# Altium footprint library PcbLib1.PcbLib: 8 footprints
Each footprint in its own frame and in the unit in brackets; x right, y up, seen from the top. Pads: shape width x height; smd on the part's side, far side on the other; paste and mask are expansions set on the pad; w line width, h text height; cw(c..) or ccw(c..) is an arc to the next point about the centre after c.
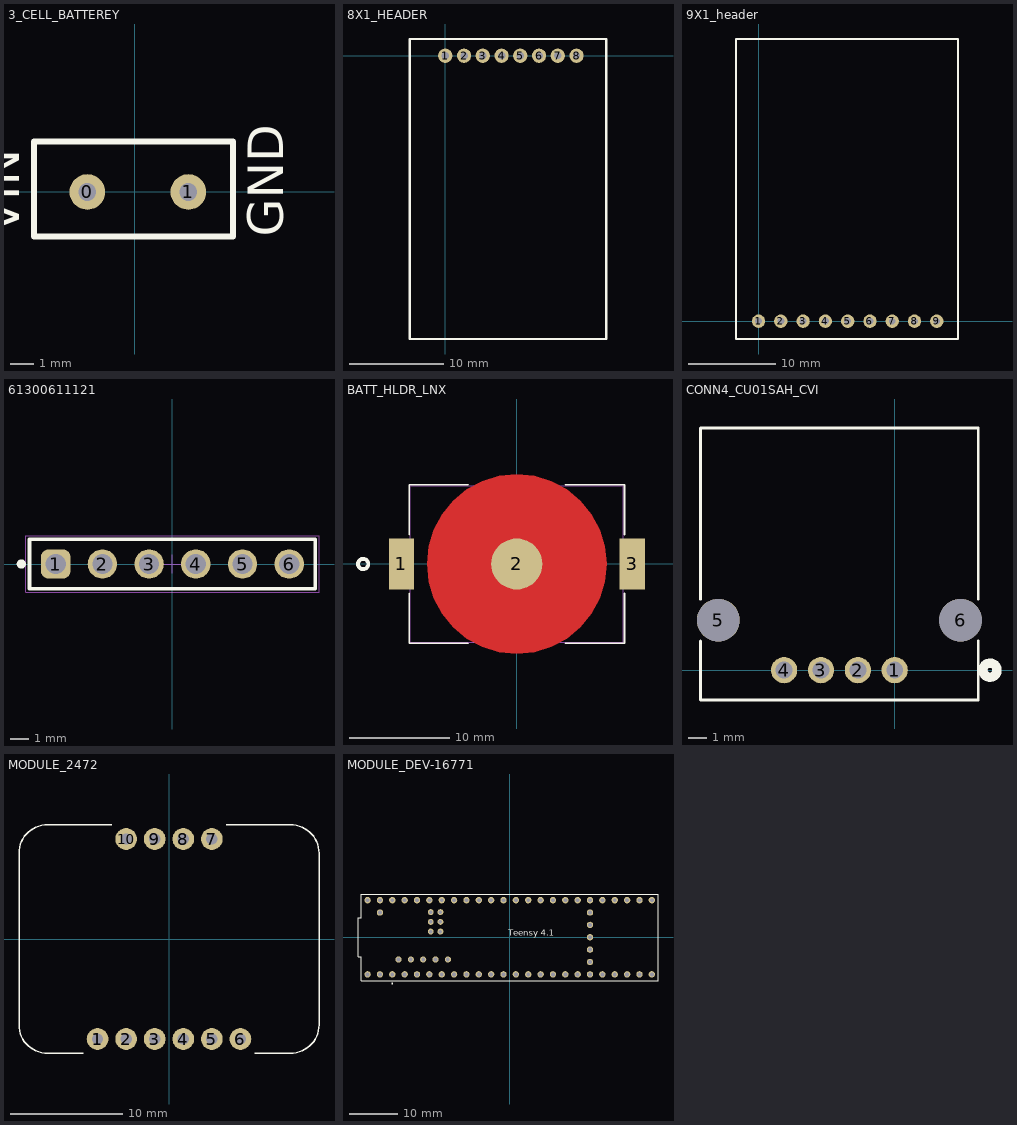
[diagram p0: the footprints below, top view; thin cyan lines are the x and y axes]

## 3_CELL_BATTEREY [mil]
pads (2):
  round 60 hole 30: 0(-80,0) 1(90,0)
Top Overlay:
  lines w10: -170,-75 165,-75 165,85 -170,85 -170,-75
  text "GND" at 250,-75 h60
  text "VIN" at -195,-70 h60

## 8X1_HEADER [mil]
pads (8):
  round 60 hole 31.5: 1(0,0) 2(78.74,0) 3(157.48,0) 4(236.22,0) 5(314.96,0) 6(393.7,0)
  round 60 hole 30: 7(472.44,0) 8(551.18,0)
Top Overlay:
  lines w10: -150,-1189.84 676.77,-1189.84 676.77,70 -150,70 -150,-1189.84

## 9X1_header [mil]
pads (9):
  round 60 hole 31.5: 1(0,0) 2(100,0) 3(200,0) 4(300,0) 5(400,0) 6(500,0)
  round 60 hole 30: 7(600,0) 8(700,0) 9(800,0)
Top Overlay:
  lines w10: -101.06,-80 895,-80 895,1266.46 -101.06,1266.46 -101.06,-80

## 61300611121 [mm] "Pin Header, pitch 2.54 mm, THT, Vertical, single row, 6p"
height 8.54
pads (6):
  rrect50% 1.6x1.6 hole 1.1: 1(-6.35,0)
  round 1.6 hole 1.1: 2(-3.81,0) 3(-1.27,0) 4(1.27,0) 5(3.81,0) 6(6.35,0)
Top Overlay:
  circle w0.25: c-8.22,0 r0.125
  lines w0.2: -7.77,-1.345 -7.77,1.345 7.77,1.345 7.77,-1.345 -7.77,-1.345
Top Courtyard:
  lines w0.05: -7.97,-1.545 7.97,-1.545 7.97,1.545 -7.97,1.545 -7.97,-1.545
Top Component Center:
  lines w0.05: -0.5,0 0.5,0 ; 0,-0.5 0,0.5
3D body "61300611121.stp": height 8.57, standoff -2.97, extent -7.62,-1.27 7.62,1.27

## BATT_HLDR_LNX [mil]
pads (3):
  rect 98x201 smd paste+0 mask+0: 1(-450.79,0) 3(450.79,0)
  round 200 smd paste-100 mask-100: 2(0,0)
Top Layer:
  region: 343.77,-68.38 350.5,0 343.77,68.38 323.82,134.13 291.43,194.73 247.84,247.84 194.73,291.43 134.13,323.82 68.38,343.77 0,350.5 -68.38,343.77 -134.13,323.82 -194.73,291.43 -247.84,247.84 -291.43,194.73 -323.82,134.13 -343.77,68.38 -350.5,0 -343.77,-68.38 -323.82,-134.13 -291.43,-194.73 -247.84,-247.84 -194.73,-291.43 -134.13,-323.82 -68.38,-343.77 0,-350.5 68.38,-343.77 134.13,-323.82 194.73,-291.43 247.84,-247.84 291.43,-194.73 323.82,-134.13
Top Overlay:
  circle w15: c-600,0 r20
  lines w6: -420.5,-113.6 -420.5,-310 -190.01,-310 ; -420.5,113.6 -420.5,310 -190.01,310 ; 190.01,-310 420.5,-310 420.5,-113.6 ; 190.01,310 420.5,310 420.5,113.6
Top Paste:
  region: 343.77,-68.38 350.5,0 343.77,68.38 323.82,134.13 291.43,194.73 247.84,247.84 194.73,291.43 134.13,323.82 68.38,343.77 0,350.5 -68.38,343.77 -134.13,323.82 -194.73,291.43 -247.84,247.84 -291.43,194.73 -323.82,134.13 -343.77,68.38 -350.5,0 -343.77,-68.38 -323.82,-134.13 -291.43,-194.73 -247.84,-247.84 -194.73,-291.43 -134.13,-323.82 -68.38,-343.77 0,-350.5 68.38,-343.77 134.13,-323.82 194.73,-291.43 247.84,-247.84 291.43,-194.73 323.82,-134.13
Top Solder:
  region: 343.77,-68.38 350.5,0 343.77,68.38 323.82,134.13 291.43,194.73 247.84,247.84 194.73,291.43 134.13,323.82 68.38,343.77 0,350.5 -68.38,343.77 -134.13,323.82 -194.73,291.43 -247.84,247.84 -291.43,194.73 -323.82,134.13 -343.77,68.38 -350.5,0 -343.77,-68.38 -323.82,-134.13 -291.43,-194.73 -247.84,-247.84 -194.73,-291.43 -134.13,-323.82 -68.38,-343.77 0,-350.5 68.38,-343.77 134.13,-323.82 194.73,-291.43 247.84,-247.84 291.43,-194.73 323.82,-134.13
Mechanical 13:
  circle w0: c-405.5,0 r1.5
  lines w0: -12,305 ccw(c0,305) 12,305
  lines w1: -415.5,-305 415.5,-305 415.5,305 -415.5,305 -415.5,-305

## CONN4_CU01SAH_CVI [mil]
pads (6):
  round 56 / inner round 60 / far side round 56 hole 36 paste-99999 mask+0: 1(0,0) 2(-78.74,0) 3(-157.48,0) 4(-236.22,0)
  round 91 / inner round 60 / far side round 91 hole 91 unplated paste-99999 mask-45.5: 5(-376.77,106.69) 6(140.55,106.69)
Top Overlay:
  circle w20: c203.39,0 r15
  lines w6: -414.61,61.95 -414.61,-63.8 178.39,-63.8 178.39,61.95 ; -414.61,151.44 -414.61,517.2 178.39,517.2 178.39,151.44
Bottom Overlay:
  circle w20: c203.39,0 r15

## MODULE_2472 [mil]
pads (10):
  round 76 hole 39.37: 1(-250,-350) 2(-150,-350) 3(-50,-350) 4(50,-350) 5(150,-350) 6(250,-350) 7(150,350) 8(50,350) 9(-50,350) 10(-150,350)
Top Overlay:
  lines w5: -300.6,-400 -425,-400 cw(c-425,-300) -525,-300 -525,300 cw(c-425,300) -425,400 -200.6,400 ; 200.6,400 425,400 cw(c425,300) 525,300 525,-300 cw(c425,-300) 425,-400 300.6,-400

## MODULE_DEV-16771 [mm]
height 4.07
pads (65):
  round 1.308 hole 0.8: 0(-26.67,-7.62) 1(-24.13,-7.62) 2(-21.59,-7.62) 3(-19.05,-7.62) 3.3V_1(6.35,-7.62) 3.3V_2(-24.13,7.62) 3.3V_3(16.51,-2.54) 4(-16.51,-7.62) 5(-13.97,-7.62) 6(-11.43,-7.62) 7(-8.89,-7.62) 8(-6.35,-7.62) 9(-3.81,-7.62) 10(-1.27,-7.62) 11(1.27,-7.62) 12(3.81,-7.62) 13(3.81,7.62) 14(1.27,7.62) 15(-1.27,7.62) 16(-3.81,7.62) 17(-6.35,7.62) 18(-8.89,7.62) 19(-11.43,7.62) 20(-13.97,7.62) 21(-16.51,7.62) 22(-19.05,7.62) 23(-21.59,7.62) 24(8.89,-7.62) 25(11.43,-7.62) 26(13.97,-7.62) 27(16.51,-7.62) 28(19.05,-7.62) 29(21.59,-7.62) 30(24.13,-7.62) 31(26.67,-7.62) 32(29.21,-7.62) 33(29.21,7.62) 34(26.67,7.62) 35(24.13,7.62) 36(21.59,7.62) 37(19.05,7.62) 38(16.51,7.62) 39(13.97,7.62) 40(11.43,7.62) 41(8.89,7.62) GND1(-29.21,-7.62) GND2(6.35,7.62) GND3(-26.67,7.62) GND4(16.51,0) ON/OFF(16.51,5.08) PROGRAM(16.51,2.54) VBAT(16.51,-5.08) VIN(-29.21,7.62) VUSB(-26.67,5.08)
  round 1.258 hole 0.75: 5V(-22.86,-4.57) D+(-17.78,-4.57) D-(-20.32,-4.57) USB_GND1(-15.24,-4.57) USB_GND2(-12.7,-4.57)
  round 1.208 hole 0.7: GND5(-14.24,3.17) LED(-16.24,3.17) R+(-16.24,5.17) R-(-14.24,5.17) T+(-14.24,1.17) T-(-16.24,1.17)
Top Overlay:
  circle w0.2: c-24.13,-9.5 r0.1
  circle w0.2: c-24.13,-9.5 r0.1
  lines w0.127: -31.18,-4.03 -31.18,4.03 -30.48,4.03 -30.48,8.89 30.48,8.89 30.48,-8.89 -30.48,-8.89 -30.48,-4.03 -31.18,-4.03
  text "Teensy 4.1" at -0.25,0.34 h1.27